# EAGLE library part ISO3086 (library PP_DigitalIC)
Manufacturer Part #: ISO3086 Manufacturer: Texas Instruments Description: Digital Isolators ISOLATED 485 XCEIVER
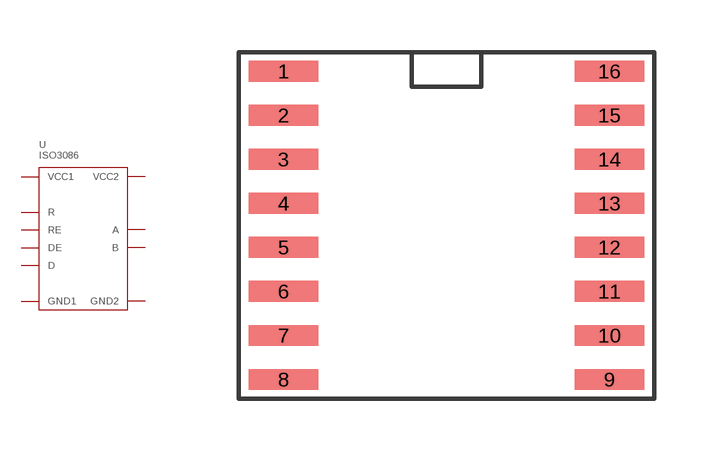
[diagram p14: symbol with the pads of ISO3086_SOIC-16W; footprint ISO3086_SOIC-16W]

Designator prefix U

## ISO3086TDW  [ISO3086_SOIC-16W]
1  VCC1
2  GND1
3  R
4  RE
5  DE
6  D
7  GND1
8  GND1
9  GND2
10  GND2
12  A
13  B
15  GND2
16  VCC2

## Footprint ISO3086_SOIC-16W (pad centres in mm)
smd 2 x 0.6: 1 -4.7,4.445; 2 -4.7,3.175; 3 -4.7,1.905; 4 -4.7,0.635; 5 -4.7,-0.635; 6 -4.7,-1.905; 7 -4.7,-3.175; 8 -4.7,-4.445; 9 4.7,-4.445; 10 4.7,-3.175; 11 4.7,-1.905; 12 4.7,-0.635; 13 4.7,0.635; 14 4.7,1.905; 15 4.7,3.175; 16 4.7,4.445